# EAGLE library part SWITCH_APEM-5046 (library 1A-meinLib)
Miniaturhebelschalter APEM 4046, zweipoliger Umschalter, gerade Lötstifte, stehend
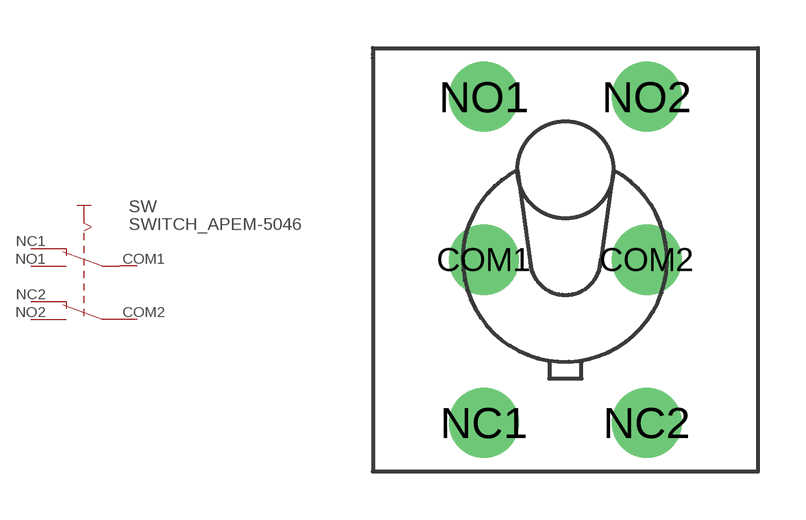
[diagram p187: symbol with the pads of SWITCH_APEM-5046; footprint SWITCH_APEM-5046]

Designator prefix SW

## SWITCH_APEM-5046  [SWITCH_APEM-5046]
COM1  C1  pas
COM2  C2  pas
NC1  NC1  pas
NC2  NC2  pas
NO1  NO1  pas
NO2  NO2  pas

## Footprint SWITCH_APEM-5046 (pad centres in mm)
drill 1.1 pad 2.184 round: COM1 -2.54,0; COM2 2.54,0; NC1 -2.54,-5.08; NC2 2.54,-5.08; NO1 -2.54,5.08; NO2 2.54,5.08